# EAGLE library part 24AA512 (library Microchip)
512kb I2C EEPROM
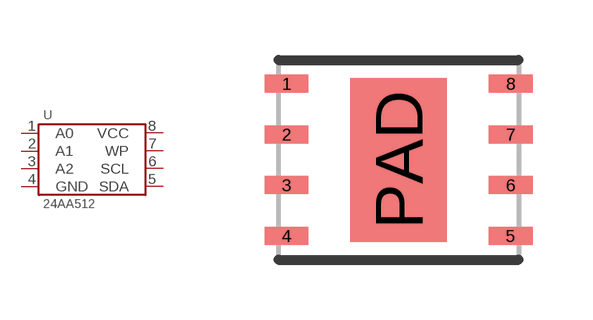
[diagram p3: symbol with the pads of 24AA512; footprint 24AA512]

Designator prefix U

## 24AA512  [24AA512]
1  A0
2  A1
3  A2
4  GND
5  SDA
6  SCL
7  WP
8  VCC

## Footprint 24AA512 (pad centres in mm)
smd 1.1 x 0.45: 1 -2.8,1.905; 2 -2.8,0.635; 3 -2.8,-0.635; 4 -2.8,-1.905; 5 2.8,-1.905; 6 2.8,-0.635; 7 2.8,0.635; 8 2.8,1.905
smd 2.4 x 4.1: PAD 0,0